# Altium schematic symbol library CABLE-404_2.5.Schlib: 1 symbol
Pins are listed as number, name and electrical type; pins without a type are passive.

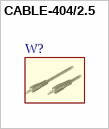
[diagram p0: symbol CABLE-404/2.5]

## CABLE-404/2.5
designator W?  (value not drawn)  (mechanical)